# Altium schematic symbol library CJIANG.SchLib: 3 symbols
Pins are listed as number, name and electrical type; pins without a type are passive.

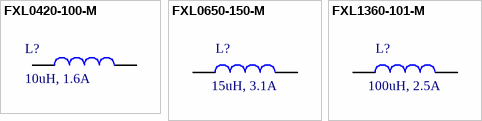
[diagram p0: symbols FXL0420-100-M to FXL1360-101-M]

## FXL0420-100-M
designator L?, comment 10uH, 1.6A
1.6A 10uH Integrated molded inductor ±20% 2.2A SMD,4.2x4.4mm Power Inductors ROHS; Manufacturer: cjiang; Manufacturer Part Number: FXL0420-100-M; DC Resistance max.: 0.282 Ohm; Rated Voltage: 80VDC; ComponentLink1Description: Datasheet; ComponentLink1URL: https://www.lcsc.com/datasheet/lcsc_datasheet_2404260921_cjiang--Changjiang-Microelectronics-Tech-FXL0420-100-M_C177242.pdf; DC Resistance typ.: N/A; Inductance: 10uH; LCSC Part #: C177242; Mount: SMD/SMT; Operating Temperature: -40 to +125degC; Packaging: Tape and Reel; Rated Current: 1.6A; Saturation Current: 2.2A; Self Resonant Frequency: N/A; Size: 0420; Supplier 1: Mouser; Supplier 1 Part Number: N/A; Supplier 1 URL: N/A; Supplier 2: Digi-Key; Supplier 2 Part Number: N/A; Supplier 2 URL: N/A; Supplier 3: thegioiic; Supplier 3 Part Number: N/A; Supplier 3 URL: N/A; Value: 10uH, 1.6A
footprint FXL0420
pins: 1, 2

## FXL0650-150-M
designator L?, comment 15uH, 3.1A
3.1A 15uH Integrated molded inductor ±20% 4A SMD,6.6x7mm Power Inductors ROHS; Manufacturer Part Number: FXL0650-150-M; Manufacturer: cjiang; DC Resistance max.: 0.09Ohm; Rated Voltage: 80VDC; ComponentLink1Description: Datasheet; ComponentLink1URL: https://www.lcsc.com/datasheet/lcsc_datasheet_2404260921_cjiang--Changjiang-Microelectronics-Tech-FXL0650-150-M_C475522.pdf; Rated Current: 3.1A; Inductance: 15uH; Operating Temperature: -40 to +125degC; Packaging: Tape and Reel; Saturation Current: 4A; Size: 0650; Self Resonant Frequency: N/A; DC Resistance typ.: N/A; Supplier 1 URL: N/A; Supplier 3 URL: N/A; Value: 15uH, 3.1A; Supplier 2 URL: N/A; LCSC Part #: C475522; Mount: SMD/SMT; Supplier 1: Mouser; Supplier 1 Part Number: N/A; Supplier 2: Digi-Key; Supplier 2 Part Number: N/A; Supplier 3: thegioiic; Supplier 3 Part Number: N/A
footprint FXL0650 (Precision Wire Wound Inductor, 2-Leads, Body 7.00x6.60mm, IPC Medium Density)
pins: 1, 2

## FXL1360-101-M
designator L?, comment 100uH, 2.5A
2.5A 100uH 3.5A 200mΩ Molded Inductor ±20% SMD,13.5x12.6mm Fixed Inductors RoHS; Manufacturer Part Number: FXL1360-101-M; Manufacturer: cjiang; Rated Voltage: 30VDC; ComponentLink1Description: Datasheet; ComponentLink1URL: https://www.lcsc.com/datasheet/C526033.pdf; Rated Current: 2.5 A; Inductance: 100uH; DC Resistance max.: 200mΩ; Operating Temperature: -40 to +125degC; Packaging: Tape and Reel; Saturation Current: 3.5 A; Size: 1360; Self Resonant Frequency: N/A; DC Resistance typ.: N/A; Supplier 1 URL: N/A; Supplier 3 URL: N/A; Value: 100uH, 2.5A; Supplier 2 URL: N/A; LCSC Part #: C526033; Mount: SMD/SMT; Supplier 1: Mouser; Supplier 1 Part Number: N/A; Supplier 2: Digi-Key; Supplier 2 Part Number: N/A; Supplier 3: thegioiic; Supplier 3 Part Number: N/A
footprint FXL1350 (Precision Wire Wound Inductor, 2-Leads, Body 13.45x12.60mm, IPC Medium Density)
pins: 1, 2